# EAGLE library part EE20-2 (library trafo)
TRANSFORMER 1 primary winding, 2 secondary windings ERA
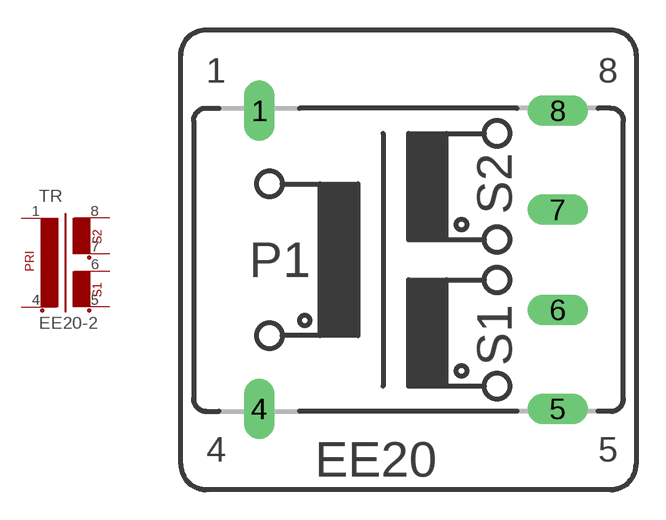
[diagram p29: symbol with the pads of EE20-2; footprint EE20-2]

Designator prefix TR

## EE20-2  [EE20-2]
1  1  pas
4  2  pas
5  3  pas
6  4  pas
7  5  pas
8  6  pas

## Footprint EE20-2 (pad centres in mm)
TRANSFORMER 1 primary winding, 2 secondary windings
drill 1.016 long: 1 -7.493,7.493; 4 -7.493,-7.493; 5 7.493,-7.493; 6 7.493,-2.515; 7 7.493,2.515; 8 7.493,7.493